# Altium footprint library M7_DSP.PcbLib: 28 footprints (part 2 of 2)
Each footprint in its own frame and in the unit in brackets; x right, y up, seen from the top. Pads: shape width x height; smd on the part's side, far side on the other; paste and mask are expansions set on the pad; w line width, h text height; cw(c..) or ccw(c..) is an arc to the next point about the centre after c.
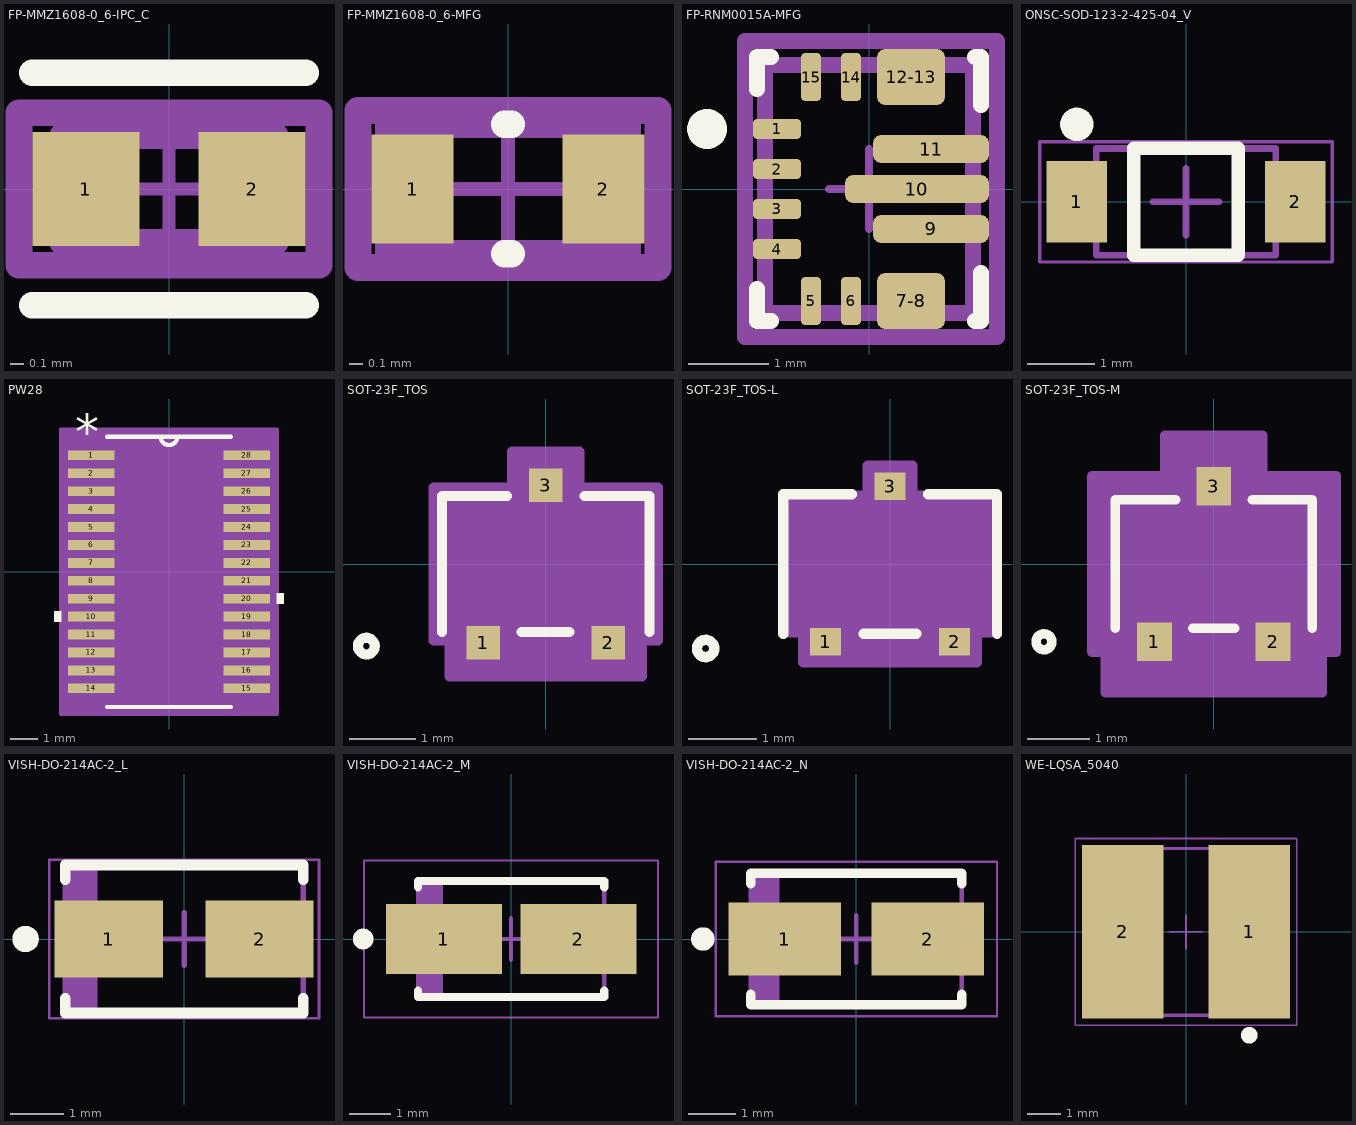
[diagram p1: the footprints below, top view; thin cyan lines are the x and y axes]

## FP-MMZ1608-0_6-IPC_C [mm]
pads (2):
  rect 0.806x0.858 smd paste+0 mask+0: 1(-0.626,0) 2(0.626,0)
Top Overlay:
  lines w0.2: -1.029,-0.875 1.029,-0.875 ; -1.029,0.875 1.029,0.875
Top 3D Body:
  lines w0.2: -0.8,-0.4 0.8,-0.4 0.8,0.4 -0.8,0.4 -0.8,-0.4
Top Courtyard:
  lines w0.2: -1.129,-0.575 1.129,-0.575 1.129,0.575 -1.129,0.575 -1.129,-0.575
Top Assembly:
  lines w0.2: -1.129,-0.575 1.129,-0.575 1.129,0.575 -1.129,0.575 -1.129,-0.575
  text ".Designator" at 0,0.188 h1
Top Component Center:
  lines w0.1: -0.5,0 0.5,0 ; 0,-0.5 0,0.5
3D body "FBead_TDK_MMZ1608B121CTAH0_eec.STEP": height 0.25, standoff 0, extent -1.129,-0.575 1.129,0.575

## FP-MMZ1608-0_6-MFG [mm]
pads (2):
  rect 0.6x0.8 smd paste+0 mask+0: 1(-0.7,0) 2(0.7,0)
Top Overlay:
  lines w0.2: -0.025,-0.475 0.025,-0.475 ; -0.025,0.475 0.025,0.475
Top 3D Body:
  lines w0.2: -0.875,-0.475 -0.875,0.475 0.875,0.475 0.875,-0.475 -0.875,-0.475
Top Courtyard:
  lines w0.2: -1.1,-0.575 -1.1,0.575 1.1,0.575 1.1,-0.575 -1.1,-0.575
Top Assembly:
  lines w0.2: -1.1,-0.575 -1.1,0.575 1.1,0.575 1.1,-0.575 -1.1,-0.575
  text ".Designator" at 0,0.188 h1
Top Component Center:
  lines w0.1: -0.5,0 0.5,0 ; 0,-0.5 0,0.5
3D body "FBead_TDK_MMZ1608B121CTAH0_eec.STEP": height 0.25, standoff 0, extent -1.1,-0.575 1.1,0.575

## FP-RNM0015A-MFG [mm]
pads (13):
  rrect40% 0.6x0.25 smd paste+0 mask-1000: 1(-1.15,0.75) 2(-1.15,0.25) 3(-1.15,-0.25) 4(-1.15,-0.75)
  rrect40% 0.25x0.6 smd paste+0 mask-1000: 5(-0.725,-1.4) 6(-0.225,-1.4) 14(-0.225,1.4) 15(-0.725,1.4)
  rrect29% 0.85x0.7 smd paste-1000 mask-1000: 7-8(0.525,-1.4) 12-13(0.525,1.4)
  rrect57% 1.45x0.35 smd paste-1000 mask-1000: 9(0.775,-0.5) 11(0.775,0.5)
  rrect57% 1.8x0.35 smd paste-1000 mask-1000: 10(0.6,0)
Top Overlay:
  circle w0.25: c-2.025,0.75 r0.125
  lines w0.2: -1.4,-1.25 -1.4,-1.65 -1.225,-1.65 ; -1.4,1.25 -1.4,1.65 -1.225,1.65 ; 1.325,-1.65 1.4,-1.65 1.4,-1.05 ; 1.325,1.65 1.4,1.65 1.4,1.05
Top Paste:
  drawing of 8 lines, arcs and shapes, not listed
Top Solder:
  drawing of 13 lines, arcs and shapes, not listed
Top 3D Body:
  lines w0.2: -1.3,-1.55 -1.3,1.55 1.3,1.55 1.3,-1.55 -1.3,-1.55
Top Courtyard:
  lines w0.2: -1.55,-1.85 -1.55,1.85 1.6,1.85 1.6,-1.85 -1.55,-1.85
Top Assembly:
  lines w0.2: -1.55,-1.85 -1.55,1.85 1.6,1.85 1.6,-1.85 -1.55,-1.85
  text ".Designator" at 0.025,0.188 h1
Top Component Center:
  lines w0.1: -0.5,0 0.5,0 ; 0,-0.5 0,0.5
3D body "IC_Texas_Instruments_TPS63070RNMT_eec.STEP": height 0.25, standoff 0, extent -1.55,-1.85 1.6,1.85

## ONSC-SOD-123-2-425-04_V [mm] "SOD, 2-Leads, Body 2.69x1.6mm"
height 1.35
pads (2):
  rect 0.91x1.22 smd: 1(-1.635,0) 2(1.635,0)
Top Overlay:
  circle w0.25: c-1.635,1.16 r0.125
  lines w0.2: -0.78,-0.8 0.78,-0.8 0.78,0.8 -0.78,0.8 -0.78,-0.8
Mechanical 13:
  lines w0.1: -1.345,-0.8 1.345,-0.8 1.345,0.8 -1.345,0.8 -1.345,-0.8
Mechanical 15:
  lines w0.05: -2.19,-0.9 2.19,-0.9 2.19,0.9 -2.19,0.9 -2.19,-0.9
  lines w0.1: -0.5,0 0.5,0 ; 0,-0.5 0,0.5
3D body: height 1.35, standoff 0, extent -1.345,-0.8 1.345,0.8

## PW28 [mil]
pads (28):
  rect 66x14 smd paste-33 mask-33: 1(-111,166.34) 2(-111,140.75) 3(-111,115.16) 4(-111,89.57) 5(-111,63.98) 6(-111,38.39) 7(-111,12.8) 8(-111,-12.8) 9(-111,-38.39) 10(-111,-63.98) 11(-111,-89.57) 12(-111,-115.16) 13(-111,-140.75) 14(-111,-166.34) 15(111,-166.34) 16(111,-140.75) 17(111,-115.16) 18(111,-89.57) 19(111,-63.98) 20(111,-38.39) 21(111,-12.8) 22(111,12.8) 23(111,38.39) 24(111,63.98) 25(111,89.57) 26(111,115.16) 27(111,140.75) 28(111,166.34)
Top Overlay:
  region: -154,-56.48 -164,-56.48 -164,-71.48 -154,-71.48
  region: 154,-30.89 164,-30.89 164,-45.89 154,-45.89
  lines w6: -88.5,-193 88.5,-193 ; -88.5,193 88.5,193 ; -12,193 ccw(c0,193) 12,193
  text "*" at -133.5,175.34 h50
Mechanical 13:
  lines w0: -12,193 ccw(c0,193) 12,193
  lines w1: -130,-172.34 -130,-160.34 -88.5,-160.34 -88.5,-172.34 -130,-172.34 ; -130,-146.75 -130,-134.75 -88.5,-134.75 -88.5,-146.75 -130,-146.75 ; -130,-121.16 -130,-109.16 -88.5,-109.16 -88.5,-121.16 -130,-121.16 ; -130,-95.57 -130,-83.57 -88.5,-83.57 -88.5,-95.57 -130,-95.57 ; -130,-69.98 -130,-57.98 -88.5,-57.98 -88.5,-69.98 -130,-69.98 ; -130,-44.39 -130,-32.39 -88.5,-32.39 -88.5,-44.39 -130,-44.39 ; -130,-18.8 -130,-6.8 -88.5,-6.8 -88.5,-18.8 -130,-18.8 ; -130,6.8 -130,18.8 -88.5,18.8 -88.5,6.8 -130,6.8 ; -130,32.39 -130,44.39 -88.5,44.39 -88.5,32.39 -130,32.39 ; -130,57.98 -130,69.98 -88.5,69.98 -88.5,57.98 -130,57.98 ; -130,83.57 -130,95.57 -88.5,95.57 -88.5,83.57 -130,83.57 ; -130,109.16 -130,121.16 -88.5,121.16 -88.5,109.16 -130,109.16 ; -130,134.75 -130,146.75 -88.5,146.75 -88.5,134.75 -130,134.75 ; -130,160.34 -130,172.34 -88.5,172.34 -88.5,160.34 -130,160.34 ; -88.5,-193 88.5,-193 88.5,193 -88.5,193 -88.5,-193 ; 88.5,-172.34 88.5,-160.34 130,-160.34 130,-172.34 88.5,-172.34 ; 88.5,-146.75 88.5,-134.75 130,-134.75 130,-146.75 88.5,-146.75 ; 88.5,-121.16 88.5,-109.16 130,-109.16 130,-121.16 88.5,-121.16 ; 88.5,-95.57 88.5,-83.57 130,-83.57 130,-95.57 88.5,-95.57 ; 88.5,-69.98 88.5,-57.98 130,-57.98 130,-69.98 88.5,-69.98 ; 88.5,-44.39 88.5,-32.39 130,-32.39 130,-44.39 88.5,-44.39 ; 88.5,-18.8 88.5,-6.8 130,-6.8 130,-18.8 88.5,-18.8 ; 88.5,6.8 88.5,18.8 130,18.8 130,6.8 88.5,6.8 ; 88.5,32.39 88.5,44.39 130,44.39 130,32.39 88.5,32.39 ; 88.5,57.98 88.5,69.98 130,69.98 130,57.98 88.5,57.98 ; 88.5,83.57 88.5,95.57 130,95.57 130,83.57 88.5,83.57 ; 88.5,109.16 88.5,121.16 130,121.16 130,109.16 88.5,109.16 ; 88.5,134.75 88.5,146.75 130,146.75 130,134.75 88.5,134.75 ; 88.5,160.34 88.5,172.34 130,172.34 130,160.34 88.5,160.34
  text "*" at -133.5,175.34 h50
Mechanical 15:
  region: 154,-203 -154,-203 -154,203 154,203
  lines w6: -154,-203 -154,203 154,203 154,-203 -154,-203
3D body "PW28.step": height 47.09, standoff 0, extent -130,-192.99 130,192.99

## SOT-23F_TOS [mil]
pads (3):
  rect 20x20 smd paste+0 mask+0: 1(-37.4,-47) 2(37.4,-47) 3(0,47)
Top Overlay:
  circle w6: c-107,-49 r5
  lines w6: -62,-40.5 -62,40.5 -23.1,40.5 ; -14.3,-40.5 14.3,-40.5 ; 23.1,40.5 62,40.5 62,-40.5
Mechanical 13:
  circle w0: c-47,-25.5 r5
  lines w1: -57,-35.5 -57,35.5 57,35.5 57,-35.5 -57,-35.5 ; -47.4,-49 -27.4,-49 -27.4,-35.5 -47.4,-35.5 -47.4,-49 ; -10,35.5 -10,49 10,49 10,35.5 -10,35.5 ; 27.4,-49 47.4,-49 47.4,-35.5 27.4,-35.5 27.4,-49
Mechanical 15:
  region: 57,-35.5 -57,-35.5 -57,35.5 57,35.5
  region: -67,-45.5 -67,45.5 -20,45.5 -20,67 20,67 20,45.5 67,45.5 67,-45.5 57.4,-45.5 57.4,-67 -57.4,-67 -57.4,-45.5
  lines w6: -67,-45.5 -57.4,-45.5 -57.4,-67 57.4,-67 57.4,-45.5 67,-45.5 67,45.5 20,45.5 20,67 -20,67 -20,45.5 -67,45.5 -67,-45.5
3D body "SOT-23F_TOS.step": height 37.09, standoff 0, extent -57.01,-43.01 57.01,43.01

## SOT-23F_TOS-L [mil]
pads (3):
  rect 18x16 smd paste+0 mask+0: 1(-37.4,-45) 2(37.4,-45) 3(0,45)
Top Overlay:
  circle w6: c-107,-49 r5
  lines w6: -62,-40.5 -62,40.5 -22.1,40.5 ; -15.3,-40.5 15.3,-40.5 ; 22.1,40.5 62,40.5 62,-40.5
Mechanical 13:
  circle w0: c-47,-25.5 r5
  lines w1: -57,-35.5 57,-35.5 57,35.5 -57,35.5 -57,-35.5 ; -47.4,-49 -47.4,-35.5 -27.4,-35.5 -27.4,-49 -47.4,-49 ; -10,35.5 10,35.5 10,49 -10,49 -10,35.5 ; 27.4,-49 27.4,-35.5 47.4,-35.5 47.4,-49 27.4,-49
Mechanical 15:
  region: -61,-39.5 -61,39.5 -14,39.5 -14,57 14,57 14,39.5 61,39.5 61,-39.5 51.4,-39.5 51.4,-57 -51.4,-57 -51.4,-39.5
  region: 57,-35.5 -57,-35.5 -57,35.5 57,35.5
  lines w6: -61,-39.5 -61,39.5 -13,39.5 -13,57 13,57 13,39.5 61,39.5 61,-39.5 50.4,-39.5 50.4,-57 -50.4,-57 -50.4,-39.5 -61,-39.5
3D body "SOT-23F_TOS.step": height 37.09, standoff 0, extent -57.01,-43.01 57.01,43.01

## SOT-23F_TOS-M [mil]
pads (3):
  rect 22x24 smd paste+0 mask+0: 1(-37.4,-49) 2(37.4,-49) 3(0,49)
Top Overlay:
  circle w6: c-107,-49 r5
  lines w6: -62,-40.5 -62,40.5 -24.1,40.5 ; -13.3,-40.5 13.3,-40.5 ; 24.1,40.5 62,40.5 62,-40.5
Mechanical 13:
  circle w0: c-47,-25.5 r5
  lines w1: -57,-35.5 57,-35.5 57,35.5 -57,35.5 -57,-35.5 ; -47.4,-49 -47.4,-35.5 -27.4,-35.5 -27.4,-49 -47.4,-49 ; -10,35.5 10,35.5 10,49 -10,49 -10,35.5 ; 27.4,-49 27.4,-35.5 47.4,-35.5 47.4,-49 27.4,-49
Mechanical 15:
  region: -77,-55.5 -77,55.5 -30,55.5 -30,81 30,81 30,55.5 77,55.5 77,-55.5 67.4,-55.5 67.4,-81 -67.4,-81 -67.4,-55.5
  region: 57,-35.5 -57,-35.5 -57,35.5 57,35.5
  lines w6: -77,-55.5 -77,55.5 -31,55.5 -31,81 31,81 31,55.5 77,55.5 77,-55.5 68.4,-55.5 68.4,-81 -68.4,-81 -68.4,-55.5 -77,-55.5
3D body "SOT-23F_TOS.step": height 37.09, standoff 0, extent -57.01,-43.01 57.01,43.01

## VISH-DO-214AC-2_L [mm] "DO-214AC, 2-Leads, Body 4.5x2.79mm, IPC High Density"
height 2.29
pads (2):
  rect 2.05x1.45 smd: 1(-1.425,0) 2(1.425,0)
Top Overlay:
  circle w0.25: c-3,0 r0.125
  lines w0.2: -2.25,-1.125 -2.25,-1.4 2.25,-1.4 2.25,-1.125 ; -2.25,1.125 -2.25,1.4 2.25,1.4 2.25,1.125
Mechanical 13:
  rectangle: -2.25,-1.395 -1.645,1.395
  lines w0.1: -2.25,-1.395 -2.25,1.395 2.25,1.395 2.25,-1.395 -2.25,-1.395
Mechanical 15:
  lines w0.05: -2.55,-1.5 -2.55,1.5 2.55,1.5 2.55,-1.5 -2.55,-1.5
  lines w0.1: -0.5,0 0.5,0 ; 0,-0.5 0,0.5
3D body: height 2.29, standoff 0, extent -2.25,-1.395 2.25,1.395

## VISH-DO-214AC-2_M [mm] "DO-214AC, 2-Leads, Body 4.5x2.79mm, IPC Low Density"
height 2.29
pads (2):
  rect 2.8x1.7 smd: 1(-1.625,0) 2(1.625,0)
Top Overlay:
  circle w0.25: c-3.575,0 r0.125
  lines w0.2: -2.25,-1.25 -2.25,-1.4 2.25,-1.4 2.25,-1.25 ; -2.25,1.25 -2.25,1.4 2.25,1.4 2.25,1.25
Mechanical 13:
  rectangle: -2.25,-1.395 -1.645,1.395
  lines w0.1: -2.25,-1.395 -2.25,1.395 2.25,1.395 2.25,-1.395 -2.25,-1.395
Mechanical 15:
  lines w0.05: -3.55,-1.9 -3.55,1.9 3.55,1.9 3.55,-1.9 -3.55,-1.9
  lines w0.1: -0.5,0 0.5,0 ; 0,-0.5 0,0.5
3D body: height 2.29, standoff 0, extent -2.25,-1.395 2.25,1.395

## VISH-DO-214AC-2_N [mm] "DO-214AC, 2-Leads, Body 4.5x2.79mm, IPC Medium Density"
height 2.29
pads (2):
  rect 2.4x1.55 smd: 1(-1.525,0) 2(1.525,0)
Top Overlay:
  circle w0.25: c-3.275,0 r0.125
  lines w0.2: -2.25,-1.175 -2.25,-1.4 2.25,-1.4 2.25,-1.175 ; -2.25,1.175 -2.25,1.4 2.25,1.4 2.25,1.175
Mechanical 13:
  rectangle: -2.25,-1.395 -1.645,1.395
  lines w0.1: -2.25,-1.395 2.25,-1.395 2.25,1.395 -2.25,1.395 -2.25,-1.395
Mechanical 15:
  lines w0.05: -3,-1.65 3,-1.65 3,1.65 -3,1.65 -3,-1.65
  lines w0.1: -0.5,0 0.5,0 ; 0,-0.5 0,0.5
3D body: height 2.29, standoff 0, extent -2.25,-1.395 2.25,1.395

## WE-LQSA_5040 [mm] "SMD Power Inductor, body 5.00x5.00mm"
height 4
pads (2):
  rect 2.45x5.2 smd: 1(1.9,0) 2(-1.9,0)
Top Overlay:
  circle w0.25: c1.9,-3.1 r0.125
Top 3D Body:
  circle w0.1: c1.7,-1.7 r0.3
  lines w0.1: -2.5,-2.5 2.5,-2.5 2.5,2.5 -2.5,2.5 -2.5,-2.5
Top Courtyard:
  lines w0.05: -0.5,0 0.5,0 ; 0,-0.5 0,0.5 ; -3.325,-2.8 3.325,-2.8 3.325,2.8 -3.325,2.8 -3.325,-2.8
Top Designator:
  text ".Designator" at -4.998,-0.333 h1
Top Component Outline:
  circle w0.1: c1.7,-1.7 r0.3
  lines w0.1: -2.5,-2.5 2.5,-2.5 2.5,2.5 -2.5,2.5 -2.5,-2.5
3D body "78404054xxx_5040.stp": height 3.72, standoff 0.02, extent -2.505,-2.5 2.505,2.5